# Altium footprint library TE NC6-P108-02.PCBLIB: 1 footprints
Each footprint in its own frame and in the unit in brackets; x right, y up, seen from the top. Pads: shape width x height; smd on the part's side, far side on the other; paste and mask are expansions set on the pad; w line width, h text height; cw(c..) or ccw(c..) is an arc to the next point about the centre after c.
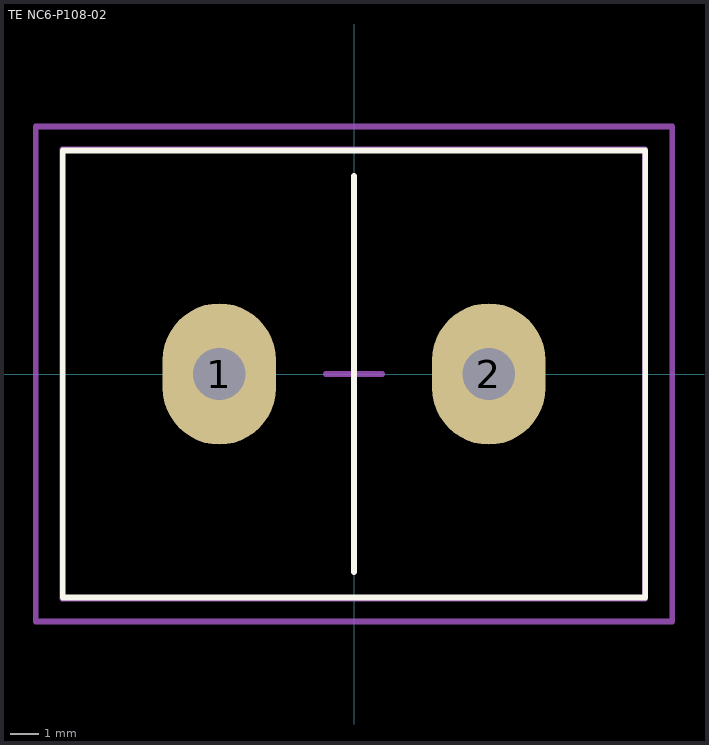
[diagram p0: the footprint, top view; thin cyan lines are the x and y axes]

## TE NC6-P108-02 [mm]
height 16.51
pads (2):
  oval 4x5 hole 1.854: 1(-4.763,0) 2(4.763,0)
Top Overlay:
  lines w0.2: 0,-7 0,7 ; -10.3,-7.9 10.3,-7.9 10.3,7.9 -10.3,7.9 -10.3,-7.9
Mechanical 1:
  lines w0.2: -10.312,-7.937 10.287,-7.937 10.287,7.938 -10.312,7.938 -10.312,-7.937
Mechanical 15:
  lines w0.2: -1,0 1,0 ; 0,-1 0,1 ; -11.25,-8.75 11.25,-8.75 11.25,8.75 -11.25,8.75 -11.25,-8.75
3D body "TE NC6-P108-02.STEP": height 16.38, standoff -4.57, extent -10.312,-7.937 10.287,7.938